# Altium schematic symbol library U_LT3008_TS8.SchLib: 1 symbol
Pins are listed as number, name and electrical type; pins without a type are passive.

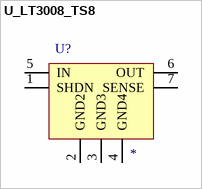
[diagram p0: symbol U_LT3008_TS8]

## U_LT3008_TS8
designator U?
pins: 1 SHDN, 2 GND2, 3 GND3, 4 GND4, 5 IN, 6 OUT, 7 SENSE